# EAGLE library part HC06 (library 00 MyModules)
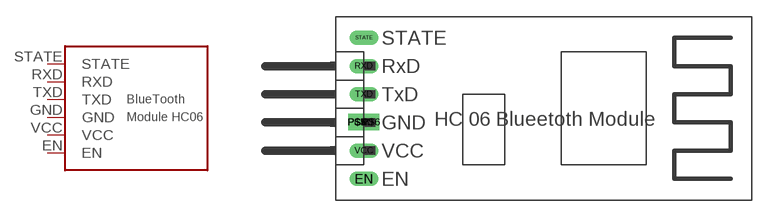
[diagram p2: symbol with the pads of HC06; footprint HC06]

Designator prefix IC

## HC06  [HC06]
EN  EN  in
GND  GND  pwr
RXD  RXD  in
STATE  STATE  out
TXD  TXD  out
VCC  VCC  pwr

## Footprint HC06 (pad centres in mm)
drill 0.8 long: EN -12.7,-5.08; RXD -12.7,5.08; STATE -12.7,7.62; TXD -12.7,2.54; VCC -12.7,-2.54
drill 0.5 pad 1.27 long: GND -12.7,0
drill 1 square: P$4 -13.335,0.032; P$5 -13.335,0.032; P$6 -12.065,0.032